# Altium schematic symbol library BQ4050.SCHLIB: 56 symbols
Pins are listed as number, name and electrical type; pins without a type are passive.

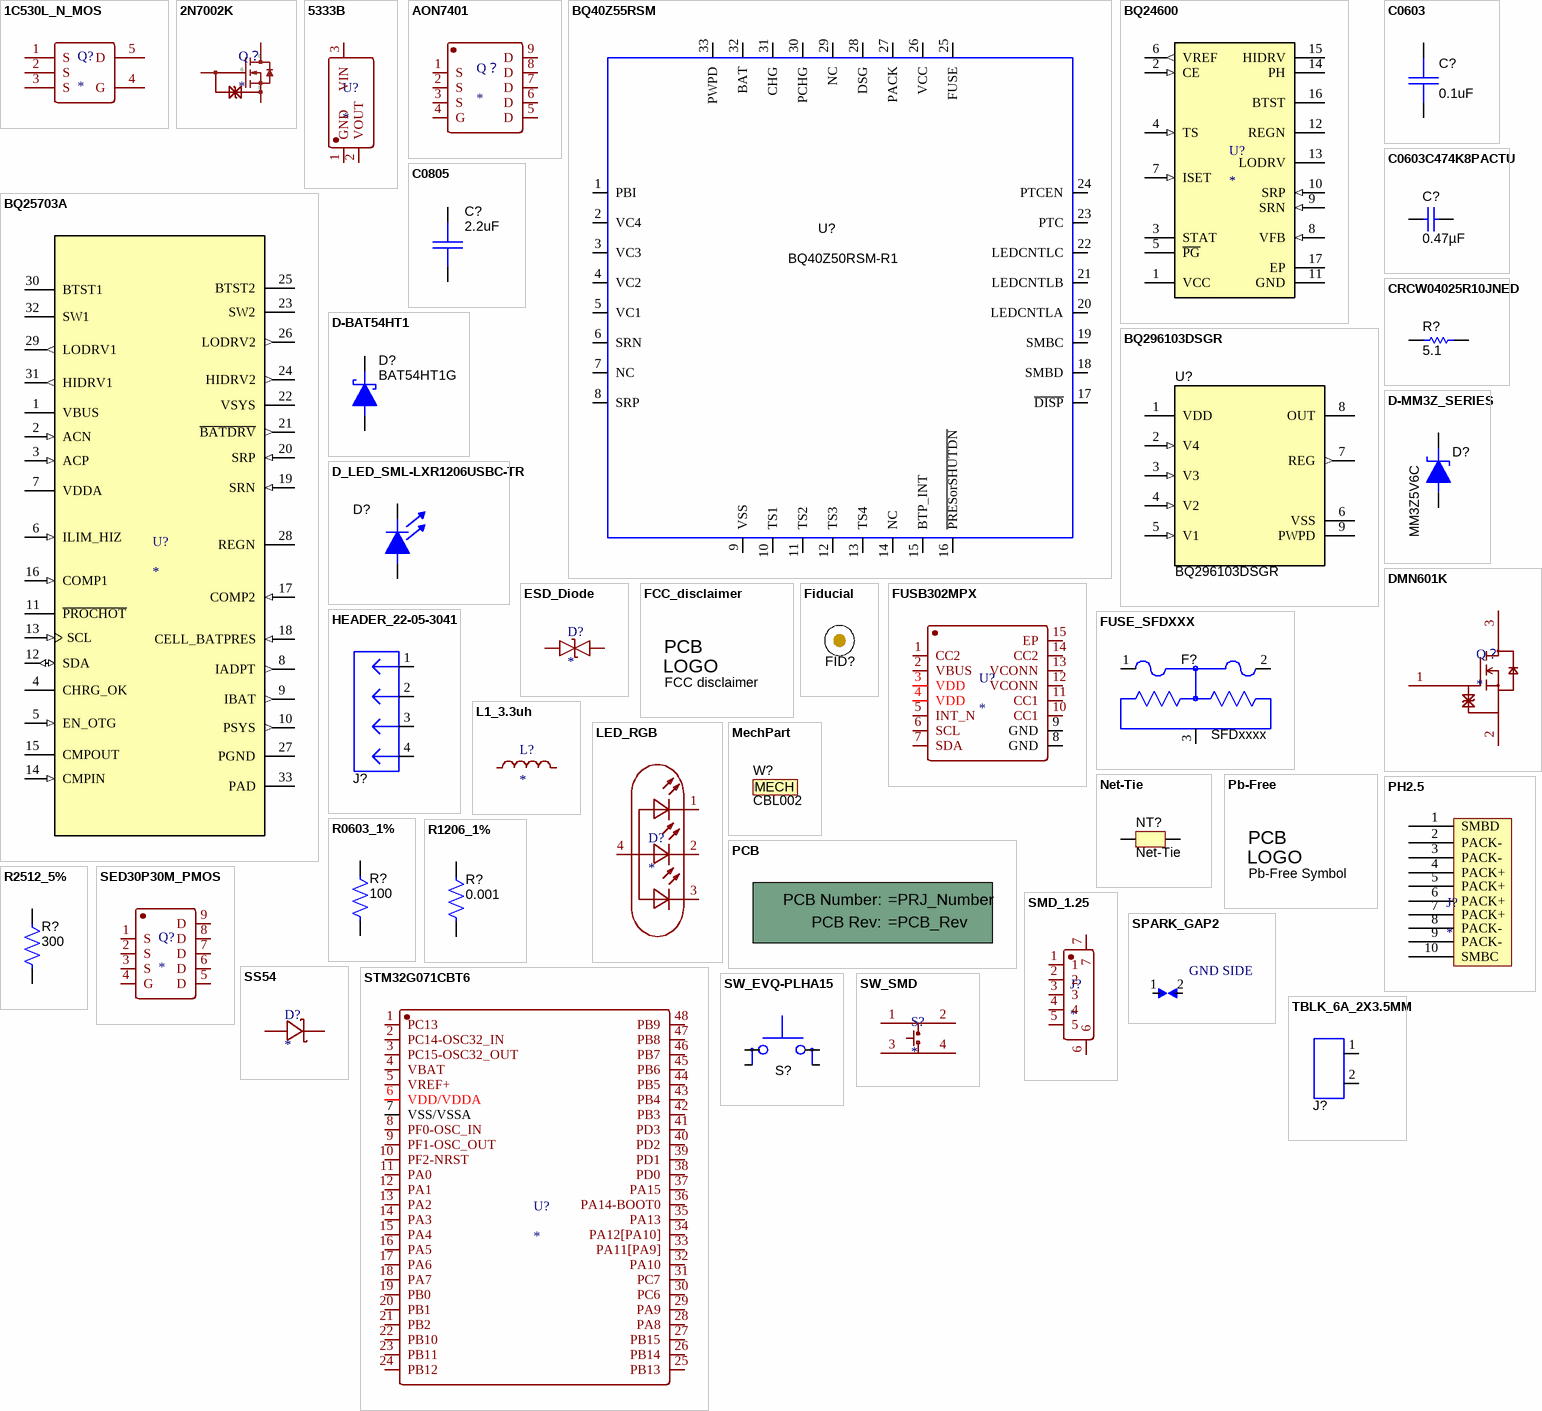
[diagram p0: symbols 1C530L_N_MOS to TBLK_6A_2X3.5MM]

## 1C530L_N_MOS
designator Q?
footprint LFPAK
pins: 1 S, 2 S, 3 S, 4 G, 5 D

## 2N7002K
designator Q？
footprint 2N7002K
pins: 1 G, 2 S, 3 D

## 5333B
designator U?
footprint SOT-23 - duplicate (DMN601K)
pins: 1 GND, 2 VOUT, 3 VIN

## AON7401
designator Q？
footprint DFN-8
pins: 1 S, 2 S, 3 S, 4 G, 5 D, 6 D, 7 D, 8 D, 9 D

## BQ40Z55RSM
designator U?  value BQ40Z50RSM-R1  (hidden comment: BQ40Z55RSM)
IC, 2 to 4-Series Li-Ion Battery Pack Manager; Manufacturer: TI; Alternate Manufacturer: None; Area: 51072; ComponentHeight: 0.04mil; ComponentLink1URL: \\vette02\pmp_pcb\pcad_pdf's\bq40z55_DS.pdf; SymbolVersion: 06/22/2012 10:16:53; PackageReference: QFN; PartNumber: BQ40Z50RSM-R1; ComponentLink1Description: AEO Datasheet Link
footprint QFP-32P_(RSM)
pins: 1 PBI, 2 VC4, 3 VC3, 4 VC2, 5 VC1, 6 SRN, 7 NC, 8 SRP, 9 VSS, 10 TS1, 11 TS2, 12 TS3, 13 TS4, 14 NC, 15 BTP_INT, 16 ~{PRESorSHUTDN}, 17 ~{DISP}, 18 SMBD, 19 SMBC, 20 LEDCNTLA, 21 LEDCNTLB, 22 LEDCNTLC, 23 PTC, 24 PTCEN, 25 FUSE, 26 VCC, 27 PACK, 28 DSG, 29 NC, 30 PCHG, 31 CHG, 32 BAT, 33 PWPD

## BQ24600
designator U?
footprint BQ24600
pins: 1 VCC (power) "IC power positive supply. Connect, through a 10-ohm resistor to the common-source (diode-OR) point: source of high-side P-channel MOSFET and source of reverse-blocking power P-channel MOSFET. Or connect through a 10-ohm (See Datasheet)", 2 CE (in) "Charge-enable active-HIGH logic input. HI enables charge. LO disables charge. It has an internal 1Mohm pull-down resistor.", 3 STAT (oc) "Open-drain charge status pin to indicate various charger operation (See Table 3)", 4 TS (in) "Temperature qualification voltage input for battery pack negative temperature coefficient thermistor. Program the hot and cold temperature window with a resistor divider from VREF to TS to GND.", 5 ~{PG} (oc) "Open-drain power-good status output. The transistor turns on when a valid VCC is detected. It is turned off in the sleep mode. P\G\ can be used to drive an LED or communicate with a host processor. It can be used to drive (See Datasheet)", 6 VREF (out) "3.3-V regulated voltage output. Place a 1-uF ceramic capacitor from VREF to the GND pin close to the IC. This voltage could be used for programming of voltage and current regulation and for programming the TS threshold.", 7 ISET (in) "Charge current set input. The voltage of ISET pin programs the charge current regulation, pre-charge current and termination current set-point.", 8 VFB (in) "Output voltage analog feedback adjustment. Connect the output of a resistive voltage divider from the battery terminals to this node to adjust the output battery regulation voltage.", 9 SRN (in) "Charge-current sense resistor, negative input. A 0.1-uF ceramic capacitor is placed from SRN to SRP to provide differential-mode filtering. An optional 0.1-uF ceramic capacitor is placed from SRN pin to GND for common-mode (See Datasheet)", 10 SRP (in) "Charge-current sense resistor, positive input. A 0.1-uF ceramic capacitor is placed from SRN to SRP to provide differential-mode filtering. A 0.1-uF ceramic capacitor is placed from SRP pin to GND for common-mode filtering.", 11 GND (power) "Low-current sensitive analog/digital ground. On PCB layout, connect with thermal pad underneath the IC.", 12 REGN (power) "PWM low-side driver positive 6-V supply output. Connect a 1-uF ceramic capacitor from REGN to the PGND pin, close to the IC. Use for low-side driver and high-side driver bootstrap voltage by connecting a small-signal (See Datasheet)", 13 LODRV "PWM low-side driver output. Connect to the gate of the low-side power MOSFET with a short trace.", 14 PH (power) "PWM high-side driver negative supply. Connect to the phase-switching node (junction of the low-side power MOSFET drain, high-side power MOSFET source, and output inductor).", 15 HIDRV "PWM high-side driver output. Connect to the gate of the high-side power MOSFET with a short trace.", 16 BTST (power) "PWM high-side driver negative supply. Connect the 0.1-uF bootstrap capacitor from PH to BTST, and a bootstrap Schottky diode from REGN to BTST.", 17 EP (power) "Exposed pad beneath the IC. Always solder thermal pad to the board, and have vias on the thermal pad plane star-connecting to GND and ground plane for high-current power converter. It also serves as a thermal pad to (See Datasheet)"

## BQ25703A
designator U?
footprint BQ25703A
pins: 1 VBUS (power), 2 ACN (in), 3 ACP (in), 4 CHRG_OK (oc), 5 EN_OTG (in), 6 ILIM_HIZ (in), 7 VDDA (power), 8 IADPT (out), 9 IBAT (out), 10 PSYS (out), 11 ~{PROCHOT} (oc), 12 SDA (io), 13 SCL (in), 14 CMPIN (in), 15 CMPOUT (oc), 16 COMP1 (in), 17 COMP2 (in), 18 CELL_BATPRES (in), 19 SRN (in), 20 SRP (in), 21 ~{BATDRV} (out), 22 VSYS (power), 23 SW2 (power), 24 HIDRV2 (out), 25 BTST2 (power), 26 LODRV2 (out), 27 PGND (power), 28 REGN (power), 29 LODRV1 (out), 30 BTST1 (power), 31 HIDRV1 (out), 32 SW1 (power), 33 PAD (power)

## BQ296103DSGR
designator U?
Overvoltage Protection for 2-Series, 3-Series, and 4-Series Cell Li-Ion Batteries with Regulated Output Supply, DSG0008A; Alternate PartNumber: BQ296103DSGT; Manufacturer: Texas Instruments; SymbolCreator: Altium; CompType: IC; U/M: EA; SymbolVerison: 2014-11-19; PartNumber: BQ296103DSGR; PackageReference: DSG0008A; MountType: SMT; ComponentLink1Description: Datasheet Link; ComponentLink1URL: http://www.ti.com/lit/ds/symlink/bq296103.pdf; RoHS: Y; Publisher: Texas Instruments; LatestRevisionDate: 2015-06-04; Alternate Manufacturer: Texas Instruments
footprint DSG0008A
footprint DSG0008A_NV
pins: 1 VDD (power), 2 V4 (in), 3 V3 (in), 4 V2 (in), 5 V1 (in), 6 VSS (power), 7 REG (out), 8 OUT (oc), 9 PWPD (power)
1 alternate drawing of the same symbol

## C0603
designator C?, comment value 0.1uF  (hidden comment: C0603C104M5RACTU)
Capacitor, Ceramic Chip, 50V, X7R, ±20%; Manufacturer: Kemet; Area: 5650; ComponentHeight: 0.035 inch; SymbolVersion: 07/31/2009 12:17:27; PartNumber: C0603C104M5RACTU; PackageReference: 603; ComponentLink1Description: AEO Datasheet Link
footprint C0603S
footprint C603
pins: 1, 2
1 alternate drawing of the same symbol

## C0603C474K8PACTU
designator C?  ValueDisplayed: 0.47µF  (hidden comment: C0603C474K8PACTU)
CAP, CERM, 0.47 µF, 10 V, +/- 10%, X5R, 0603; Manufacturer: Kemet; Value: 0.47uF; Polarized: N; CompType: Capacitor; U/M: EA; Cap_F: 0.00000047; Tolerance_%: 10; Value1: Unknown; Value2: 10V; TaMin_C: -55; TaMax_C: 85; Cap_Case: 0603; SymbolVersion: 2008-07-09; PartNumber: C0603C474K8PACTU; PackageReference: 0603; ComponentLink1Description: Datasheet link; RoHS: Y; VDC_V: 10; MountType: SMT; Technology: Ceramic; TempCo: X5R; Published: 2008-06-19; Publisher: Texas Instruments; LatestRevisionDate: 2015-01-28; ComponentLink1URL: http://www.kemet.com/kemet/web/homepage/kechome.nsf/vapubfiles/F3102_Y5V.pdf/$file/F3102_Y5V.pdf; Supplier 1: Digi-Key; Supplier Part Number 1: 399-3114-1-ND; Supplier 2: Mouser; Supplier Part Number 2: 80-C0603C474K8P
signal-integrity model Cap
simulation model Cap
footprint 0603
footprint 0603M
footprint 0603L
footprint 0603_HV
footprint 0603S
pins: 1, 2

## C0805
designator C?, comment value 2.2uF  (hidden comment: C2012X7R1E225M085AB)
Capacitor, Ceramic Chip, 25V, X7R ±20%; Manufacturer: TDK; Area: 10560; ComponentHeight: 0.053 inch; SymbolVersion: 06/23/2010 08:22:44; PartNumber: C2012X7R1E225M085AB; PackageReference: 805; ComponentLink1Description: AEO Datasheet Link
footprint C0805
footprint C0805S
pins: 1, 2
1 alternate drawing of the same symbol

## CRCW04025R10JNED
designator R?  ValueDisplayed: 5.1  (hidden comment: CRCW04025R10JNED)
RES, 5.1, 5%, 0.063 W, 0402; Manufacturer: Vishay-Dale; CompType: Resistor; Value: 5.1; Value_Code: 5R10; Tolerance_%: 5; Power_W: 0.063; Value2: 0.063W; VDC_V: 50; TempCo: 200 ppm/C; EIA_Code: E24; U/M: EA; SymbolVersion: 2009-05-29; PartNumber: CRCW04025R10JNED; PackageReference: 0402; RoHS: Y; Res_ohm: 5.1; Value1: 5%; MountType: SMT; Technology: Thick Film; Published: 2008-06-26; Publisher: Texas Instruments; LatestRevisionDate: 2015-04-21; ComponentLink1Description: Datasheet link; ComponentLink1URL: http://www.vishay.com/docs/20035/dcrcwe3.pdf; Supplier 1: Digi-Key; Supplier Part Number 1: 541-5.1JCT-ND; Supplier 2: Mouser; Supplier Part Number 2: 71-CRCW0402J-5.1-E3; Supplier 3: Farnell; Supplier Part Number 3: 1571699
signal-integrity model Resistor
simulation model Resistor
footprint 0402
footprint 0402M
footprint 0402L
footprint 0402S
pins: 1, 2

## D-BAT54HT1
designator D?  value BAT54HT1G  (hidden comment: D-BAT54HT1)
Diode, Schottky, 200-mA, 30-V; Manufacturer: On Semi; Area: 14105; ComponentHeight: 0.043 inch; ComponentLink1URL: \\vette02\pmp_pcb\pcad_pdf's\BAT54HT1-D.pdf; SymbolVersion: 02/28/2007 14:26:03; PackageReference: SOD323; PartNumber: BAT54HT1G; ComponentLink1Description: AEO Datasheet Link
footprint SOD-323
pins: 1 C, 2 A

## D-MM3Z_SERIES
designator D?  value MM3Z5V6C  (hidden comment: D-MM3Z_SERIES)
Diode, Zener, 5.6V, 200mw; Manufacturer: Fairchild; Area: 15500; ComponentHeight: 0.039 inch; ComponentLink1URL: \\vette02\pmp_pcb\pcad_pdf's\MM3Z5V6C.pdf; SymbolVersion: 02/27/2009 13:34:03; PackageReference: SOD323; PartNumber: MM3Z5V6C; ComponentLink1Description: AEO Datasheet Link
footprint SOD-323
pins: 1 C, 2 A

## D_LED_SML-LXR1206USBC-TR
designator D?  (value not drawn)
Diode, LED, 2X3mm 565nm GRN WTR CLR SMD; PartNumber: SML-LX23GC; Manufacturer: Lumex; Area: 22000; Value: SML-LX23GC; ComponentLink1URL: \\vette02\pmp_pcb\pcad_pdf's\SML-LXR1206USBC-TR[1].pdf; SymbolVersion: 08/01/2007 15:25:38; PackageReference: 1206; ComponentHeight: 0.041 inch; ComponentLink1Description: AEO Datasheet Link
footprint D-LED-SML
pins: 1 C, 2 A

## DMN601K
designator Q？
footprint SOT-23 - duplicate (DMN601K)
pins: 1 G, 2 S, 3 D

## ESD_Diode
designator D?
footprint ESD_Diode
pins: 1, 2

## FCC_disclaimer
designator Logo?, comment FCC disclaimer  (no BOM)
FCC_disclaimer; SymbolCreator: codlsc; SymbolVersion: 2011-08-22; Published: 2009-03-03; Publisher: Texas Instruments; LatestRevisionDate: 2014-11-20
footprint FCC_disclaimer
footprint FCC_disclaimer_stacked
text: PCB; LOGO

## Fiducial
designator FID?  (value not drawn)
Fiducial mark.  There is nothing to buy or mount.; SymbolCreator: codlsc; SymbolVersion: 2009-11-4; CompType: Fiducial; Publisher: Texas Instruments; LatestRevisionDate: 2014-08-01; LatestRevisionNote: Added Alternate PartNumber and Alternate Manufacturer parameters to appropriate components.; Manufacturer: N/A; MountType: N/A; PackageReference: Fiducial; PartNumber: N/A; ClassName: FiducialMark
footprint Fiducial10-30
footprint Fiducial10-20
footprint Fiducial15-30
footprint Fiducial20-40
footprint Fiducial6.4-20

## FUSB302MPX
designator U?
footprint MIP_14
pins: 1 CC2, 2 VBUS, 3 VDD, 4 VDD, 5 INT_N, 6 SCL, 7 SDA, 8 GND, 9 GND, 10 CC1, 11 CC1, 12 VCONN, 13 VCONN, 14 CC2, 15 EP

## FUSE_SFDXXX
designator F?, comment SFDxxxx
Fuse, Slo-Blo Ceramic, xxA, yyyV; Manufacturer: Sony; Area: 30150; Value: {Value}; ComponentHeight: 0.049 inch; PackageReference: SFDxxx; SymbolVersion: 07/31/2009 12:17:29; ComponentLink1Description: AEO Datasheet Link; PartNumber: SFDxxxx
footprint FUSE-SFD
pins: 1, 2, 3

## HEADER_22-05-3041
designator J?  (value not drawn)
Header, Friction Lock Ass'y, 4-pin Right Angle,; Manufacturer: Molex; area: 227900; ComponentHeight: 0.250 inch; Value: 22-05-3041; ComponentLink1URL: \\vette02\pmp_pcb\pcad_pdf's\kk series 0.100.pdf; SymbolVersion: 11/01/2006 14:05:33; PackageReference: 0.400 x 0.500 inch; PartNumber: 22-05-3041; ComponentLink1Description: AEO Datasheet Link
footprint HDR100_22-05-3041
pins: 1, 2, 3, 4

## L1_3.3uh
designator L?
footprint 3.3uh
pins: 1, 2

## LED_RGB
designator D?
footprint LED_RGB
pins: 1 R-, 2 G-, 3 B-, 4 +

## MechPart
designator W?, comment CBL002  (mechanical)
Cable assembly, 4 pin; Manufacturer: Texas Instruments; SymbolCreator: codlsc; CompType: Mechanical; U/M: EA; SymbolVersion: 2010-02-24; PackageReference: N/A; PartNumber: CBL002; RoHS: Y; MountType: N/A; ComponentLink1Description: Datasheet Link; ComponentLink1URL: Paste URL for datasheet here; Publisher: Texas Instruments; LatestRevisionDate: 2014-12-30; LatestRevisionNote: Added Alternate PartNumber and Alternate Manufacturer parameters to appropriate components.; Alternate Manufacturer: -; Alternate PartNumber: -
text: MECH

## Net-Tie
designator NT?  (net tie, no BOM)
Single point connection between nets.; SymbolCreator: codlsc; SymbolVersion: 2009-07-01; MountType: SMT; Publisher: Texas Instruments; LatestRevisionDate: 2013-06-05; LatestRevisionNote: Added Alternate PartNumber and Alternate Manufacturer parameters to appropriate components.
footprint Net-Tie_10mil (10mil net tie, no solder mask opening, no solder paste)
footprint NetTie_1206 (1206 pads tied by 10mil copper trace which can be cut.  Part can be placed on pads.)
footprint Net-Tie_0805_HV
footprint NetTie_1206_NoOverlay (1206 pads tied by 10mil copper trace which can be cut.  Part can be placed on pads.)
footprint Net-Tie_0805_HV_NoOverlay (0805_HV pads tied by 10mil copper trace which can be cut.  An 0805 part can be placed on pads.)
footprint Net-Tie_10milWide_30milLong
footprint Net-Tie_20milWide_60milLong
pins: 1, 2

## Pb-Free
designator Logo?, comment Pb-Free Symbol  (no BOM)
SymbolCreator: a0412235; SymbolVersion: 2011-08-22; Published: 2009-03-03; Publisher: Texas Instruments; LatestRevisionDate: 2014-08-05
footprint Pb-Free_Overlay_Medium
footprint Pb-Free_Overlay_Small
text: PCB; LOGO

## PCB
designator !PCB?, comment Printed Circuit Board  (value not drawn)  (mechanical)
Manufacturer: Any; SymbolCreator: a0412235; CompType: PCB; SymbolVersion: 2012-05-30; PartNumber: =PRJ_Number; RoHS: O; MountType: N/A; Publisher: Texas Instruments; LatestRevisionDate: 2012-06-27; LatestRevisionNote: Initial Version; Alternate Manufacturer: -; Alternate PartNumber: -
1 alternate drawing of the same symbol
text: PCB Number:; PCB Rev:

## PH2.5
designator J?
footprint PH2.5
pins: 1 SMBD, 2 PACK-, 3 PACK-, 4 PACK+, 5 PACK+, 6 PACK+, 7 PACK+, 8 PACK-, 9 PACK-, 10 SMBC

## R0603_1%
designator R?, comment value 100  (hidden comment: CRCW0603100RJNEAHP)
Resistor, Chip, 1/10W, 5%; Manufacturer: Vishay-Dale; Area: 9100; SymbolVersion: 05/06/2011 13:51:33; PackageReference: 603; PartNumber: CRCW0603100RJNEAHP; ComponentLink1Description: AEO Datasheet Link
footprint R0603
footprint R0603S
pins: 1, 2
1 alternate drawing of the same symbol

## R1206_1%
designator R?, comment value 0.001  (hidden comment: CSR1206-0R001F1)
Resistor, Chip 1 watt, ±1%, 50 ppm; Manufacturer: Reidon; Area: 20,000; SymbolVersion: 05/06/2011 13:59:00; PackageReference: 1206; PartNumber: CSR1206-0R001F1; ComponentLink1Description: AEO Datasheet Link
footprint R1206
footprint R1206S
pins: 1, 2
1 alternate drawing of the same symbol

## R2512_5%
designator R?, comment value 300  (hidden comment: CRCW2512300RJNEG)
Resistor, Chip 1W, 5%; Manufacturer: Vishay-Dale; Area: 56,000; SymbolVersion: 05/06/2011 14:04:06; PackageReference: 2512; PartNumber: CRCW2512300RJNEG; ComponentLink1Description: AEO Datasheet Link
footprint R2512
pins: 1, 2
1 alternate drawing of the same symbol

## SED30P30M_PMOS
designator Q?
footprint SED30P30M_PMOS
pins: 1 S, 2 S, 3 S, 4 G, 5 D, 6 D, 7 D, 8 D, 9 D

## SMD_1.25
designator J?
footprint SMD_1.25
pins: 1, 2, 3, 4, 5, 6, 7

## SPARK_GAP2
designator SPK?, comment Spark Gap  (value not drawn)  (no BOM)
Spark Gap, 0.010  inch space; Manufacturer: mfg; Area: 3500; Value: {Value}; ComponentHeight: 0.004 inch; PackageReference: 0.050 x 0.070 inch; SymbolVersion: 07/31/2009 12:17:31; PartNumber: Spark Gap; ComponentLink1Description: AEO Datasheet Link
footprint SPARK_GAP2
pins: 1, 2
text: GND SIDE

## SS54
designator D?
footprint SMA(DO-214AC)
pins: 1 A, 2 K

## STM32G071CBT6
designator U?
footprint STM32G071CBT6
pins: 1 PC13, 2 PC14-OSC32_IN, 3 PC15-OSC32_OUT, 4 VBAT, 5 VREF+, 6 VDD/VDDA, 7 VSS/VSSA, 8 PF0-OSC_IN, 9 PF1-OSC_OUT, 10 PF2-NRST, 11 PA0, 12 PA1, 13 PA2, 14 PA3, 15 PA4, 16 PA5, 17 PA6, 18 PA7, 19 PB0, 20 PB1, 21 PB2, 22 PB10, 23 PB11, 24 PB12, 25 PB13, 26 PB14, 27 PB15, 28 PA8, 29 PA9, 30 PC6, 31 PC7, 32 PA10, 33 PA11[PA9], 34 PA12[PA10], 35 PA13, 36 PA14-BOOT0, 37 PA15, 38 PD0, 39 PD1, 40 PD2, 41 PD3, 42 PB3, 43 PB4, 44 PB5, 45 PB6, 46 PB7, 47 PB8, 48 PB9

## SW_EVQ-PLHA15
designator S?  (value not drawn)
Switch, 1P1T, 50-mA, 12-V, 160g; Manufacturer: Panasonic; area: 57600; ComponentLink1URL: \\vette02\pmp_pcb\pcad_pdf's\ATK0000CE3-1.pdf; ComponentHeight: 0.125 inch; SymbolVersion: 11/01/2006 14:05:33; PackageReference: 0.200 x 0.200 inch; PartNumber: EVQ-PLHA15; Value: EVQ-PLHA15; ComponentLink1Description: AEO Datasheet Link
footprint SW_EVQPL
pins: A, A', B, B'

## SW_SMD
designator S?
footprint SW_SMD
pins: 1, 2, 3, 4

## TBLK_6A_2X3.5MM
designator J?  (value not drawn)
Terminal Block, 2-pin, 6-A, 3.5mm; Manufacturer: OST; area: 70125; Value: ED555/2DS; ComponentHeight: 0.323 inch; ComponentLink1URL: \\vette02\pmp_pcb\pcad_pdf's\ED555DS.pdf; SymbolVersion: 06/03/2009 16:02:17; PackageReference: 0.27 x 0.25 inch; PartNumber: ED555/2DS; ComponentLink1Description: AEO Datasheet Link
footprint TB_2X3.5MM
pins: 1, 2

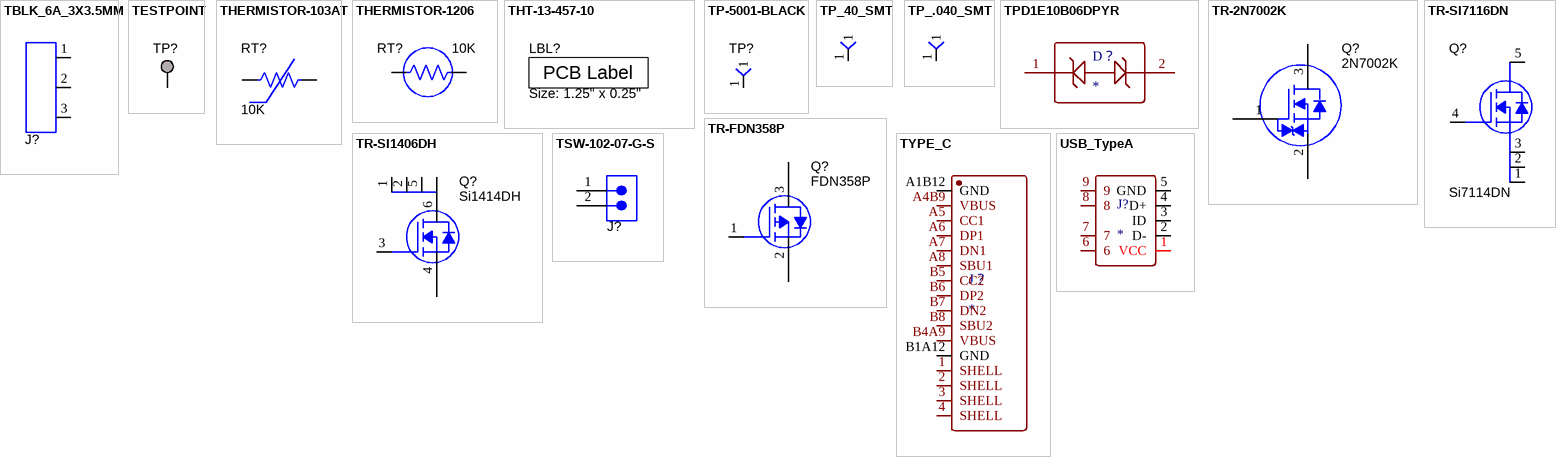
[diagram p1: symbols TBLK_6A_3X3.5MM to USB_TypeA]

## TBLK_6A_3X3.5MM
designator J?  (value not drawn)
Terminal Block, 3-pin, 6-A, 3.5mm; Manufacturer: OST; area: 105825; Value: ED555/3DS; ComponentHeight: 0.323 inch; ComponentLink1URL: \\vette02\pmp_pcb\pcad_pdf's\ED555DS.pdf; SymbolVersion: 03/29/2007 10:58:09; PackageReference: 0.41 x 0.25 inch; PartNumber: ED555/3DS; ComponentLink1Description: AEO Datasheet Link
footprint TB_3X3.5MM
pins: 1, 2, 3

## TESTPOINT
designator TP?  (value not drawn)  (no BOM)
TEST POINT.  No entry in BOM.; SymbolVersion: 2010-10-20; CompType: Testpoint; PackageReference: N/A; Publisher: Texas Instruments; LatestRevisionDate: 2014-12-30; LatestRevisionNote: Added Alternate PartNumber and Alternate Manufacturer parameters to appropriate components.
footprint TESTPOINT
footprint TP_VIA_018RND008
footprint TP_VIA_060RND040
footprint TP_25MIL-SMT
pins: 1

## THERMISTOR-103AT
designator RT?, comment value 10K  (hidden comment: 103AT-2)
Thermistor, NTC, 3-A; Manufacturer: Semitec; Area: 25,000; ComponentHeight: 0.335 inch; ComponentLink1URL: \\vette02\pmp_pcb\pcad_pdf's\AT_Thermistor.pdf; PackageReference: 0.095 X 0.150 inch; SymbolVersion: 07/31/2009 12:17:31; PartNumber: 103AT-2; ComponentLink1Description: AEO Datasheet Link
footprint THERMISTER-103AT
pins: 1, 2
1 alternate drawing of the same symbol

## THERMISTOR-1206
designator RT?, comment value 10K  (hidden comment: CRCW120610K0JNEA)
Thermistor, NTC, 5 Ohms, 1-A; Manufacturer: Vishay; Alternate PartNumber: TFPT1206L1002JV; Area: 21,980; ComponentHeight: 0.080 inch; PackageReference: 1206; SymbolVersion: 07/31/2009 12:17:31; PartNumber: CRCW120610K0JNEA; Alternate Manufacturer: Vishay; ComponentLink1Description: AEO Datasheet Link
footprint 1206-T
pins: 1, 2
1 alternate drawing of the same symbol

## THT-13-457-10
designator LBL?, comment Size: 1.25" x 0.25"
Thermal Transfer Printable Labels, 1.250" W x 0.250" H - 10,000 per roll; Manufacturer: Brady; PartNumber: THT-13-457-10; SymbolCreator: a0412235; CompType: Label; SymbolVersion: 2012-06-12; ClassName: Label; RoHS: Y; PackageReference: PCB Label 1.25"H x 0.250"W; MountType: N/A; ComponentLink1Description: Web Page; ComponentLink1URL: http://www.bradyid.com/bradyid/pdpv/THT-13-457-10.html; Note: Size: 1.25" x 0.25"; Publisher: Texas Instruments; LatestRevisionDate: 2015-01-26; Supplier 1: Newark; Supplier Part Number 1: 04H3909
footprint Label_1250x250
text: PCB Label

## TP-5001-BLACK
designator TP?  (value not drawn)
Test Point,  Black, Thru Hole Color Keyed; Manufacturer: Keystone; PartNumber: 5001; area: 10.000; Value: 5001; ComponentLink1URL: \\vette02\pmp_pcb\pcad_pdf's\Keystone-SMT-TH_Test point.pdf; ComponentHeight: 0.180 inch; SymbolVersion: 11/01/2006 14:05:33; PackageReference: 0.100 x 0.100 inch; ComponentLink1Description: AEO Datasheet Link
footprint TH-40
pins: 1

## TP_40_SMT
designator TP?  (value not drawn)  (no BOM)
Test point, 40 mil SMT; Manufacturer: None; Value: None; ComponentHeight: None; SymbolVersion: 07/13/2010 09:50:06; area: *; PackageReference: None; PartNumber: None; ComponentLink1Description: AEO Datasheet Link
footprint TP_40_SMT
pins: 1

## TP_.040_SMT
designator TP?  (value not drawn)  (no BOM)
Test point, 40 mil SMT; Value: None; ComponentHeight: None; area: *; SymbolVersion: 11/01/2006 14:05:31; PackageReference: None; Manufacturer: None; PartNumber: None; ComponentLink1Description: AEO Datasheet Link
footprint TP_.040_SMT
pins: 1

## TPD1E10B06DPYR
designator D？
footprint TPD1E10B06DPYR
pins: 1, 2

## TR-2N7002K
designator Q?  value 2N7002K  (hidden comment: TR-2N7002K)
MOSFET, Nch, 60V, 300 mA, 2-Ohms; PartNumber: 2N7002K-T1-E3; Manufacturer: Vishay; Area: 14105; ComponentHeight: 0.043 inch; ComponentLink1URL: \\vette02\pmp_pcb\pcad_pdf's\Vishay_2n7002k.pdf; SymbolVersion: 02/25/2009 12:40:21; PackageReference: SOT23; ComponentLink1Description: AEO Datasheet Link
footprint SOT-23
pins: 1 G, 2 S, 3 D

## TR-FDN358P
designator Q?  value FDN358P  (hidden comment: TR-FDN358P)
MOSFET, Pch, -30V, -1.5A, 125 milliohm; Manufacturer: Fairchild; Area: 14105; ComponentHeight: 0.043 inch; ComponentLink1URL: \\vette02\pmp_pcb\pcad_pdf's\FDN358P.pdf; SymbolVersion: 07/17/2008 10:28:34; PackageReference: SOT23; PartNumber: FDN358P; ComponentLink1Description: AEO Datasheet Link
footprint SOT-23
pins: 1 G, 2 S, 3 D

## TR-SI1406DH
designator Q?  value Si1414DH  (hidden comment: TR-SI1406DH)
MOSFET, Nch, 30V, 4A, 46 milliOhms; PartNumber: SI1414DH-T1-GE3; Manufacturer: Vishay; Area: 18600; ComponentHeight: 0.051 inch; ComponentLink1URL: \\vette02\pmp_pcb\pcad_pdf's\SI1406DH.pdf; SymbolVersion: 10/29/2008 15:15:39; PackageReference: SC-70; ComponentLink1Description: AEO Datasheet Link
footprint SC-70 (Footprint not found)
pins: 1 D, 2 D, 3 G, 4 S, 5 D, 6 D

## TR-SI7116DN
designator Q?  value Si7114DN  (hidden comment: TR-SI7116DN)
MOSFET, Nch, 30V, 11.7A, 7.5millohm; PartNumber: Si7114DN-T1-E3; Manufacturer: Vishay; Area: 27200; ComponentHeight: 0.044 inch; ComponentLink1URL: \\vette02\pmp_pcb\pcad_pdf's\si7116dn.pdf; SymbolVersion: 11/17/2008 14:42:50; PackageReference: PWRPAK 1212; ComponentLink1Description: AEO Datasheet Link
footprint PP-1212-8_SNGL
pins: 1 S, 2 S, 3 S, 4 G, 5 D

## TSW-102-07-G-S
designator J?, comment PEC02SAAN  (value not drawn)
Header, TH, 100mil, 2x1, 230 mil above insulator; Manufacturer: Sullins; U/M: EA; SymbolCreator: a0412235; PartNumber: PEC02SAAN; ClassName: Header; CompType: Header; RoHS: Y; PackageReference: 2x1 Header; MountType: TH; ComponentLink1Description: Datasheet Link; ComponentLink1URL: http://samtec.com/ftppub/pdf/TSW_TH.PDF; Publisher: Texas Instruments; LatestRevisionDate: 2013-06-04; Supplier 1: Digi-Key; Supplier Part Number 1: S1012E-02-ND; SymbolVersion: 2013-03-14
footprint TSW-102-07-G-S
footprint TSW-102-07-X-S
pins: 1, 2
1 alternate drawing of the same symbol

## TYPE_C
designator J？
footprint TYPE_C
pins: 1 SHELL, 2 SHELL, 3 SHELL, 4 SHELL, A1B12 GND, A4B9 VBUS, A5 CC1, A6 DP1, A7 DN1, A8 SBU1, B1A12 GND, B4A9 VBUS, B5 CC2, B6 DP2, B7 DN2, B8 SBU2

## USB_TypeA
designator J?
footprint USB_TypeA
pins: 1 VCC, 2 D-, 3 ID, 4 D+, 5 GND, 6, 7, 8, 9